# Altium schematic symbol library 74HC21D AND GATE.SchLib: 1 symbol
Pins are listed as number, name and electrical type; pins without a type are passive.

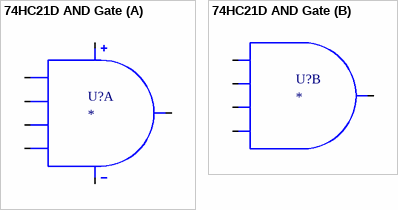
[diagram p0: symbol 74HC21D AND Gate]

## 74HC21D AND Gate
designator U?
part A pins: 1 1A, 2 1B, 4 1C, 5 1D, 6 1Y, 7 GND, 14 Vcc
part B pins: 8 2Y, 9 2A, 10 2B, 12 2C, 13 2D